# EAGLE library part IC_TTL_SINGLE_74_139 (library mylib_20130829)
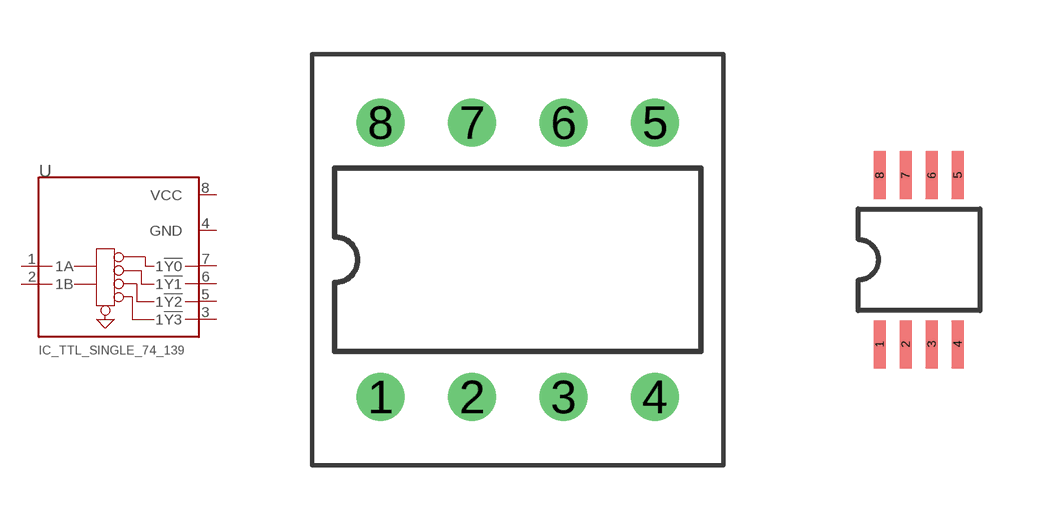
[diagram p89: symbol with the pads of BOARD_HENKAN_DIP08; footprints BOARD_HENKAN_DIP08, IC_08_0.65_160MIL]

Designator prefix -

## IC_TTL_SINGLE_74_139_HENKAN  [BOARD_HENKAN_DIP08]
1  1A  in
2  1B  in
3  1!Y3!  out
4  GND  pwr
5  1!Y2!  out
6  1!Y1!  out
7  1!Y0!  out
8  VCC  pwr

## IC_TTL_SINGLE_74_139_FLAT  [IC_08_0.65_160MIL]
Pads as for BOARD_HENKAN_DIP08

## Footprint BOARD_HENKAN_DIP08 (pad centres in mm)
drill 0.813: 1 -3.81,-3.81; 2 -1.27,-3.81; 3 1.27,-3.81; 4 3.81,-3.81; 5 3.81,3.81; 6 1.27,3.81; 7 -1.27,3.81; 8 -3.81,3.81

## Footprint IC_08_0.65_160MIL (pad centres in mm)
Mini Small Outline Package
smd 0.3 x 1.2: 1 -0.976,-2.113; 2 -0.326,-2.113; 3 0.324,-2.113; 4 0.974,-2.113; 5 0.974,2.112; 6 0.324,2.112; 7 -0.326,2.112; 8 -0.976,2.112